# EAGLE library part MOLEX_USB-C-2130830005 (library user_prog_jig_pcb_v64_v1)
USB-C (USB TYPE-C) USB 2.0 Receptacle Connector 24 (16+8 Dummy) Position Surface Mount, Right Angle; Through Hole
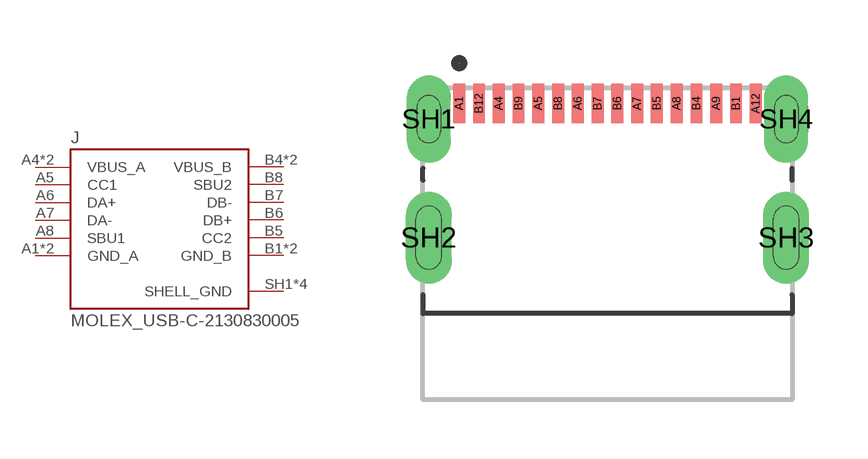
[diagram p1: symbol with the pads of MOLEX_2130830005; footprint MOLEX_2130830005]

Designator prefix J

## MOLEX_USB-C-2130830005 (MANUFACTURER: Molex; MAXIMUM_PACKAGE_HEIGHT: 3.36mm; PARTREV: A; STANDARD: Manufacturer recommendations)  [MOLEX_2130830005]
A1  GND_A  pwr
A4  VBUS_A  pwr
A5  CC1
A6  DA+
A7  DA-
A8  SBU1
A9  VBUS_A  pwr
A12  GND_A  pwr
B1  GND_B  pwr
B4  VBUS_B  pwr
B5  CC2
B6  DB+
B7  DB-
B8  SBU2
B9  VBUS_B  pwr
B12  GND_B  pwr
SH1  SHELL_GND  pwr
SH2  SHELL_GND  pwr
SH3  SHELL_GND  pwr
SH4  SHELL_GND  pwr

## Footprint MOLEX_2130830005 (pad centres in mm)
smd 0.3 x 1: A1 -3.75,0; A4 -2.75,0; A5 -1.75,0; A6 -0.75,0; A7 0.75,0; A8 1.75,0; A9 2.75,0; A12 3.75,0; B1 3.25,0; B4 2.25,0; B5 1.25,0; B6 0.25,0; B7 -0.25,0; B8 -1.25,0; B9 -2.25,0; B12 -3.25,0
drill 0.6 pad 0.8 long: SH1 -4.52,-0.4; SH4 4.52,-0.4
drill 0.65 pad 1.1 long: SH2 -4.52,-3.4; SH3 4.52,-3.4